# Altium integrated library 2338792-1.IntLib: 1 symbol
Pins are listed as number, name and electrical type; pins without a type are passive.

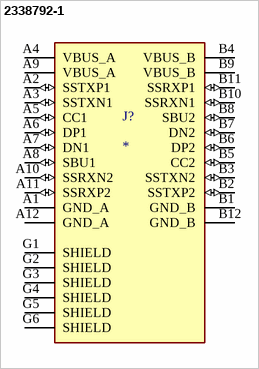
[diagram p0: symbol 2338792-1]

## 2338792-1
designator J?
USB TYPE C 3.1 CONN REV TOP MOUNT CH1.6; MF: TE Connectivity; MP: 2338792-1; SnapEDA_Link: https://www.snapeda.com/parts/2338792-1/TE+Connectivity/view-part/?ref=snap; Package: None; Value: *; Check_prices: https://www.snapeda.com/parts/2338792-1/TE+Connectivity/view-part/?ref=eda
footprint TE_2338792-1
pins: A1 GND_A (power), A2 SSTXP1 (io), A3 SSTXN1 (io), A4 VBUS_A (power), A5 CC1 (io), A6 DP1 (io), A7 DN1 (io), A8 SBU1 (io), A9 VBUS_A (power), A10 SSRXN2 (io), A11 SSRXP2 (io), A12 GND_A (power), B1 GND_B (power), B2 SSTXP2 (io), B3 SSTXN2 (io), B4 VBUS_B (power), B5 CC2 (io), B6 DP2 (io), B7 DN2 (io), B8 SBU2 (io), B9 VBUS_B (power), B10 SSRXN1 (io), B11 SSRXP1 (io), B12 GND_B (power), G1 SHIELD, G2 SHIELD, G3 SHIELD, G4 SHIELD, G5 SHIELD, G6 SHIELD